# Altium footprint library SAMTEC-MEC2-50-Pin-Mate-with-polarisation.PcbLib: 1 footprints
Each footprint in its own frame and in the unit in brackets; x right, y up, seen from the top. Pads: shape width x height; smd on the part's side, far side on the other; paste and mask are expansions set on the pad; w line width, h text height; cw(c..) or ccw(c..) is an arc to the next point about the centre after c.
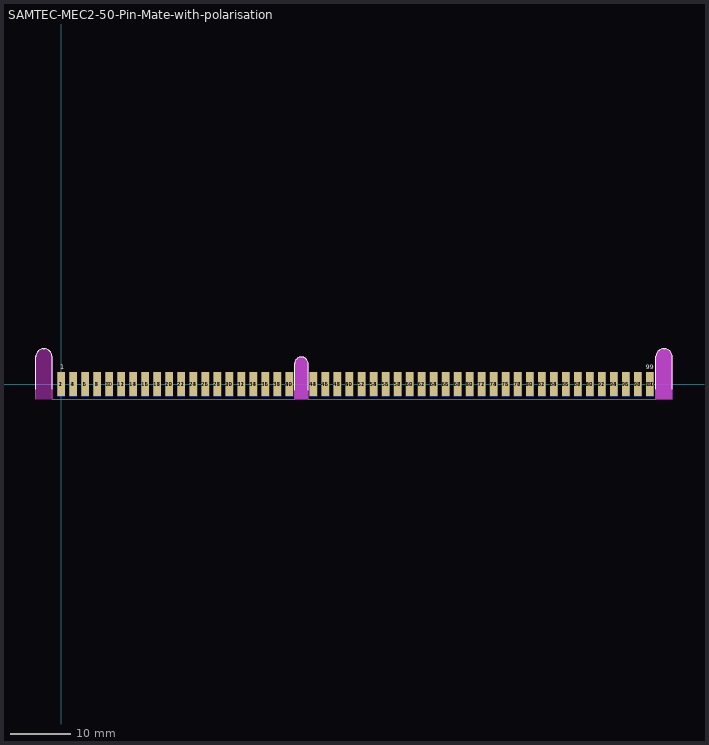
[diagram p0: the footprint, top view; thin cyan lines are the x and y axes]

## SAMTEC-MEC2-50-Pin-Mate-with-polarisation [mm] "2x50 poliger PCB Stecker, passend für Samtec MEC2-50-01-L-TH1-NP-WT, mit Polarisation"
pads (98):
  rect 1.25x4 smd: 1(0,0) 3(2,0) 5(4,0) 7(6,0) 9(8,0) 11(10,0) 13(12,0) 15(14,0) 17(16,0) 19(18,0) 21(20,0) 23(22,0) 25(24,0) 27(26,0) 29(28,0) 31(30,0) 33(32,0) 35(34,0) 37(36,0) 39(38,0) 43(42,0) 45(44,0) 47(46,0) 49(48,0) 51(50,0) 53(52,0) 55(54,0) 57(56,0) 59(58,0) 61(60,0) 63(62,0) 65(64,0) 67(66,0) 69(68,0) 71(70,0) 73(72,0) 75(74,0) 77(76,0) 79(78,0) 81(80,0) 83(82,0) 85(84,0) 87(86,0) 89(88,0) 91(90,0) 93(92,0) 95(94,0) 97(96,0) 99(98,0)
  rect 1.25x4 smd far side: 2(0,0) 4(2,0) 6(4,0) 8(6,0) 10(8,0) 12(10,0) 14(12,0) 16(14,0) 18(16,0) 20(18,0) 22(20,0) 24(22,0) 26(24,0) 28(26,0) 30(28,0) 32(30,0) 34(32,0) 36(34,0) 38(36,0) 40(38,0) 44(42,0) 46(44,0) 48(46,0) 50(48,0) 52(50,0) 54(52,0) 56(54,0) 58(56,0) 60(58,0) 62(60,0) 64(62,0) 66(64,0) 68(66,0) 70(68,0) 72(70,0) 74(72,0) 76(74,0) 78(76,0) 80(78,0) 82(80,0) 84(82,0) 86(84,0) 88(86,0) 90(88,0) 92(90,0) 94(92,0) 96(94,0) 98(96,0) 100(98,0)
Top Overlay:
  lines w0.152: -4.2,-0.885 -4.2,4.5 -4.2,4.597 cw(c-2.93,4.597) -2.93,5.867 -2.77,5.867 cw(c-2.77,4.597) -1.5,4.597 -1.5,4.496 ; -1.5,-0.885 -1.5,4.5 ; 38.875,-1.019 38.875,3.393 ; 38.875,3.375 cw(c40,3.375) 40,4.5 cw(c40,3.375) 41.125,3.375 41.125,-1.037 ; 99,-0.885 99,4.5 ; 99,4.504 99,4.602 cw(c100.27,4.602) 100.27,5.872 100.43,5.872 cw(c100.43,4.602) 101.7,4.602 101.7,4.5 101.7,-0.885
  text "1" at -0.125,2.45 h0.81
  text "99" at 97.275,2.45 h0.81
Bottom Overlay:
  text "2" at 0.25,2.45 h0.81
  text "100" at 98.625,2.45 h0.81
Keep-Out Layer:
  board cut-out: -4.2,-2.5 -4.2,4.597 -4.2,4.722 -4.151,4.968 -4.055,5.199 -3.916,5.407 -3.74,5.584 -3.532,5.723 -3.3,5.819 -3.055,5.867 -2.93,5.867 -2.77,5.867 -2.645,5.867 -2.4,5.819 -2.168,5.723 -1.96,5.584 -1.784,5.407 -1.645,5.199 -1.549,4.968 -1.5,4.722 -1.5,4.597 -1.5,-2.5
  board cut-out: 99,-2.5 99,4.597 99,4.722 99.049,4.968 99.145,5.199 99.284,5.407 99.46,5.584 99.668,5.723 99.9,5.819 100.145,5.867 100.27,5.867 100.43,5.867 100.555,5.867 100.8,5.819 101.032,5.723 101.24,5.584 101.416,5.407 101.555,5.199 101.651,4.968 101.7,4.722 101.7,4.597 101.7,-2.5
  board cut-out: 38.862,-2.5 38.862,3.375 38.862,3.486 38.905,3.703 38.99,3.908 39.113,4.092 39.27,4.249 39.454,4.372 39.659,4.457 39.876,4.5 39.987,4.5 40.098,4.5 40.315,4.457 40.52,4.372 40.704,4.249 40.861,4.092 40.984,3.908 41.069,3.703 41.112,3.486 41.112,3.375 41.112,-2.5
Mechanical 1:
  pour cut-out: 99,-2.5 99,4.597 99,4.722 99.049,4.968 99.145,5.199 99.284,5.407 99.46,5.584 99.668,5.723 99.9,5.819 100.145,5.867 100.27,5.867 100.43,5.867 100.555,5.867 100.8,5.819 101.032,5.723 101.24,5.584 101.416,5.407 101.555,5.199 101.651,4.968 101.7,4.722 101.7,4.597 101.7,-2.5
  pour cut-out: 38.875,-2.5 38.875,3.375 38.875,3.486 38.918,3.703 39.003,3.908 39.126,4.092 39.283,4.249 39.467,4.372 39.672,4.457 39.889,4.5 40,4.5 40.111,4.5 40.328,4.457 40.533,4.372 40.717,4.249 40.874,4.092 40.997,3.908 41.082,3.703 41.125,3.486 41.125,3.375 41.125,-2.5
  lines w0.152: -4.2,-2.5 -4.2,4.5 ; -4.2,4.496 -4.2,4.593 cw(c-2.93,4.593) -2.93,5.863 -2.77,5.863 cw(c-2.77,4.593) -1.5,4.593 -1.5,4.492 ; -1.5,4.5 -1.5,-2.5 38.875,-2.5 ; 38.875,-2.5 38.875,3.375 cw(c40,3.375) 40,4.5 cw(c40,3.375) 41.125,3.375 41.125,-2.5 99,-2.5 99,4.5 99,4.597 cw(c100.27,4.597) 100.27,5.867 100.43,5.867 cw(c100.43,4.597) 101.7,4.597 101.7,4.496 ; 101.7,-2.5 101.7,4.5
Multi-Layer:
  pour cut-out: -4.2,-2.5 -4.2,4.597 -4.2,4.722 -4.151,4.968 -4.055,5.199 -3.916,5.407 -3.74,5.584 -3.532,5.723 -3.3,5.819 -3.055,5.867 -2.93,5.867 -2.77,5.867 -2.645,5.867 -2.4,5.819 -2.168,5.723 -1.96,5.584 -1.784,5.407 -1.645,5.199 -1.549,4.968 -1.5,4.722 -1.5,4.597 -1.5,-2.5